# EAGLE library part 10103594-0001LF (library 10103594-0001LF)
Micro Usb, 2.0 Type b, Receptacle, Smt Buy Part <https://snapeda.com/parts/10103594-0001LF/Amphenol%20ICC/view-part/?ref=eda>
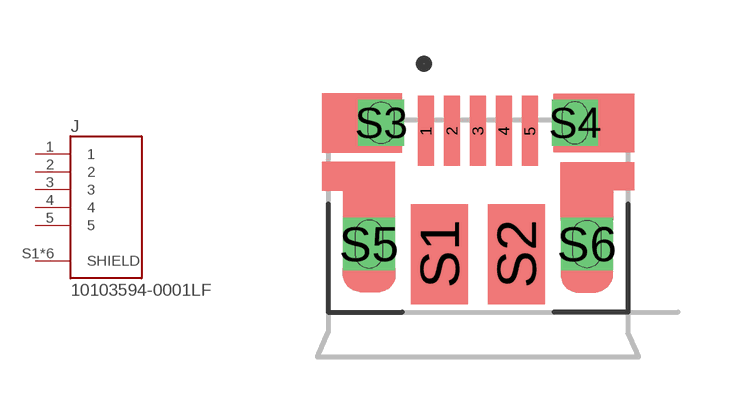
[diagram p0: symbol with the pads of FCI_10103594-0001LF; footprint FCI_10103594-0001LF]

Designator prefix J

## 10103594-0001LF (Arrow_Electronics-Purchase-URL: https://snapeda.com/shop?store=Arrow+Electronics&id=1078241; Availability: Good; Description: USB - micro B USB 2.0 Receptacle Connector 5 Position Surface Mount, Right Angle; Through Hole; DigiKey-Purchase-URL: https://snapeda.com/shop?store=DigiKey&id=1078241; MF: Amphenol ICC; MP: 10103594-0001LF; Mouser-Purchase-URL: https://snapeda.com/shop?store=Mouser&id=1078241; Package: None; Price: None)  [FCI_10103594-0001LF]
1  1  pas
2  2  pas
3  3  pas
4  4  pas
5  5  pas
S1  SHIELD  pas
S2  SHIELD  pas
S3  SHIELD  pas
S4  SHIELD  pas
S5  SHIELD  pas
S6  SHIELD  pas

## Footprint FCI_10103594-0001LF (pad centres in mm)
smd 0.4 x 1.75: 1 -1.3,2.825; 2 -0.65,2.825; 3 0,2.825; 4 0.65,2.825; 5 1.3,2.825
smd 1.425 x 2.5: S1 -0.963,-0.25; S2 0.963,-0.25
drill 0.65 pad 1.05 square: S3 -2.425,3.03; S4 2.425,3.03
drill 0.7 pad 1.3 square: S5 -2.725,0; S6 2.725,0